# EAGLE library part POLOLU (library pcaroli)
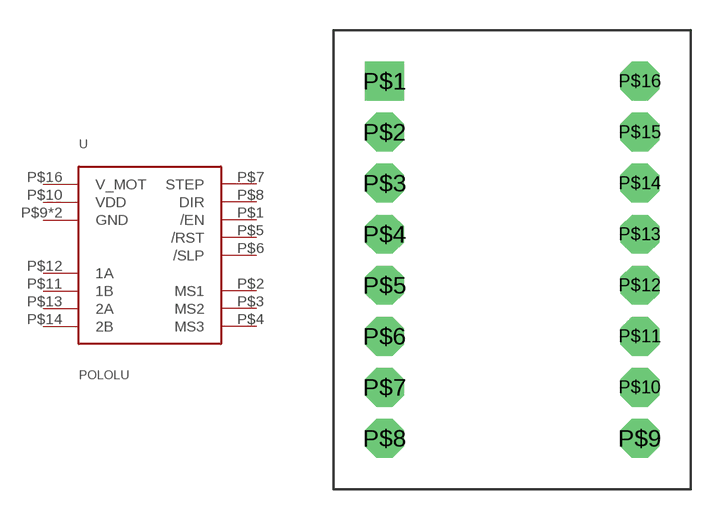
[diagram p10: symbol with the pads of POLOLU; footprint POLOLU]

Designator prefix -

## POLOLU  [POLOLU]
P$1  /EN
P$2  MS1
P$3  MS2
P$4  MS3
P$5  /RST
P$6  /SLP
P$7  STEP
P$8  DIR
P$9  GND
P$10  VDD
P$11  1B
P$12  1A
P$13  2A
P$14  2B
P$15  GND
P$16  V_MOT

## Footprint POLOLU (pad centres in mm)
drill 1 pad 1.93 square: P$1 0,0
drill 1 pad 1.93 octagon: P$2 0,-2.54; P$3 0,-5.08; P$4 0,-7.62; P$5 0,-10.16; P$6 0,-12.7; P$7 0,-15.24; P$8 0,-17.78; P$9 12.7,-17.78; P$10 12.7,-15.24; P$11 12.7,-12.7; P$12 12.7,-10.16; P$13 12.7,-7.62; P$14 12.7,-5.08; P$15 12.7,-2.54; P$16 12.7,0